# EAGLE library part LPC1114 (library sjunglib)
LPC1114 ARM Cortex-M0 microcontroller Manufacturer: NXP Vcc: 1.8-3.6V Max core clock: 50MHz Flash: 32KB SRAM: 4KB UART x1, Fm+ I2C x1, SPI x1 10-bit ADC (6 channels) 32b timer x2, 16b timer x2, SYSTICK x1, windowed WDT x1
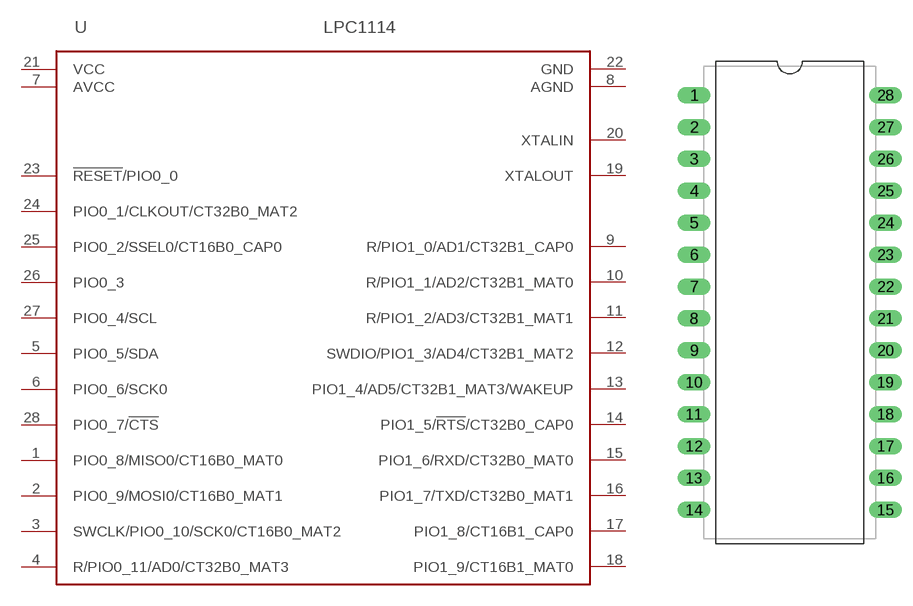
[diagram p4: symbol with the pads of DIP-28; footprint DIP-28]

Designator prefix U

## LPC1114FN28/102  [DIP-28]
1  PIO0_8/MISO0/CT16B0_MAT0
2  PIO0_9/MOSI0/CT16B0_MAT1
3  SWCLK/PIO0_10/SCK0/CT16B0_MAT2
4  R/PIO0_11/AD0/CT32B0_MAT3
5  PIO0_5/SDA
6  PIO0_6/SCK0
7  AVCC  pwr
8  AGND  pwr
9  R/PIO1_0/AD1/CT32B1_CAP0
10  R/PIO1_1/AD2/CT32B1_MAT0
11  R/PIO1_2/AD3/CT32B1_MAT1
12  SWDIO/PIO1_3/AD4/CT32B1_MAT2
13  PIO1_4/AD5/CT32B1_MAT3/WAKEUP
14  PIO1_5/!RTS!/CT32B0_CAP0
15  PIO1_6/RXD/CT32B0_MAT0
16  PIO1_7/TXD/CT32B0_MAT1
17  PIO1_8/CT16B1_CAP0
18  PIO1_9/CT16B1_MAT0
19  XTALOUT
20  XTALIN
21  VCC  pwr
22  GND  pwr
23  !RESET!/PIO0_0
24  PIO0_1/CLKOUT/CT32B0_MAT2
25  PIO0_2/SSEL0/CT16B0_CAP0
26  PIO0_3
27  PIO0_4/SCL
28  PIO0_7/!CTS

## Footprint DIP-28 (pad centres in mm)
DIP-28 Body width: 0.6" (600mil / 15.24mm) Pitch: 0.1" (100mil / 2.54mm) Drill spacing: 0.6" (600mil / 15.24mm) Drill dia: 0.032" (32mil / 0.8128mm) Pad dia: 0.052" (52mil / 1.3208mm) Documented dims: 1.48 x 0.54" (without leadframe) Documented leads: 0.02 x 0.04" (body width at top of leadframe, pin width at bottom of lead) JEDEC: MS-011AB EIA:
drill 0.813 long: 1 -7.62,16.51; 2 -7.62,13.97; 3 -7.62,11.43; 4 -7.62,8.89; 5 -7.62,6.35; 6 -7.62,3.81; 7 -7.62,1.27; 8 -7.62,-1.27; 9 -7.62,-3.81; 10 -7.62,-6.35; 11 -7.62,-8.89; 12 -7.62,-11.43; 13 -7.62,-13.97; 14 -7.62,-16.51; 15 7.62,-16.51; 16 7.62,-13.97; 17 7.62,-11.43; 18 7.62,-8.89; 19 7.62,-6.35; 20 7.62,-3.81; 21 7.62,-1.27; 22 7.62,1.27; 23 7.62,3.81; 24 7.62,6.35; 25 7.62,8.89; 26 7.62,11.43; 27 7.62,13.97; 28 7.62,16.51